# Altium schematic symbol library inductor.SchLib: 1 symbol
Pins are listed as number, name and electrical type; pins without a type are passive.

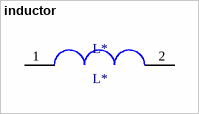
[diagram p0: symbol inductor]

## inductor
designator L*, comment L*
footprint inductor
footprint INDUCTOR4x4
pins: 1, 2